# Altium integrated library TLV320AIC23BPW.IntLib: 1 symbol
Pins are listed as number, name and electrical type; pins without a type are passive.

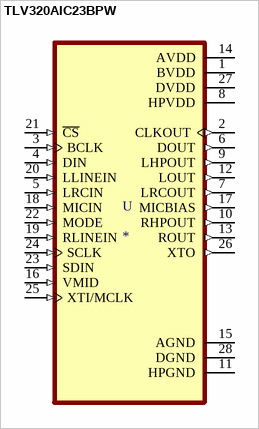
[diagram p0: symbol TLV320AIC23BPW]

## TLV320AIC23BPW
designator U
Low-Power Stereo CODEC with HP Amplifier 28-TSSOP -10 to 70; MP: TLV320AIC23BPW; MF: Texas Instruments; Availability: Warning; Package: TSSOP-28 Texas Instruments; Texas_Instruments-Purchase-URL: https://snapeda.com/shop?store=Texas+Instruments&id=249064; DigiKey-Purchase-URL: https://snapeda.com/shop?store=DigiKey&id=249064; Value: *; Arrow_Electronics-Purchase-URL: https://snapeda.com/shop?store=Arrow+Electronics&id=249064; Mouser-Purchase-URL: https://snapeda.com/shop?store=Mouser&id=249064; Price: None; SnapEDA_Link: https://www.snapeda.com/parts/TLV320AIC23BPW/Texas%20Instruments/view-part/249064/?ref=snap
footprint SOP65P640X120-28N
pins: 1 BVDD (power), 2 CLKOUT (out), 3 BCLK (in), 4 DIN (in), 5 LRCIN (in), 6 DOUT (out), 7 LRCOUT (out), 8 HPVDD (power), 9 LHPOUT (out), 10 RHPOUT (out), 11 HPGND (power), 12 LOUT (out), 13 ROUT (out), 14 AVDD (power), 15 AGND (power), 16 VMID (in), 17 MICBIAS (out), 18 MICIN (in), 19 RLINEIN (in), 20 LLINEIN (in), 21 ~{CS} (in), 22 MODE (in), 23 SDIN (in), 24 SCLK (in), 25 XTI/MCLK (in), 26 XTO (out), 27 DVDD (power), 28 DGND (power)